# Altium schematic symbol library 24AA08-I-SN.SchLib: 1 symbol
Pins are listed as number, name and electrical type; pins without a type are passive.

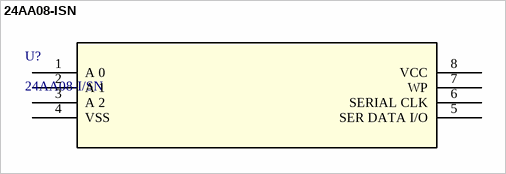
[diagram p0: symbol 24AA08-ISN]

## 24AA08-ISN
designator U?, comment 24AA08-I/SN
No Description Available; Manufacturer_Name: Microchip; Copyright: Copyright (C) 2026 Ultra Librarian. All rights reserved.; Manufacturer_Part_Number: 24AA08-I/SN; RefDes: RefDes; Type: Type
footprint SOIC8-N_MC_MCH
pins: 1 A 0, 2 A 1, 3 A 2, 4 VSS, 5 SER DATA I/O, 6 SERIAL CLK, 7 WP, 8 VCC